# EAGLE library part DATACONV->BACKPLANE (library CONN, DataConversion-Backplane Connector- SAMTEC CLT-107-01-F-D)
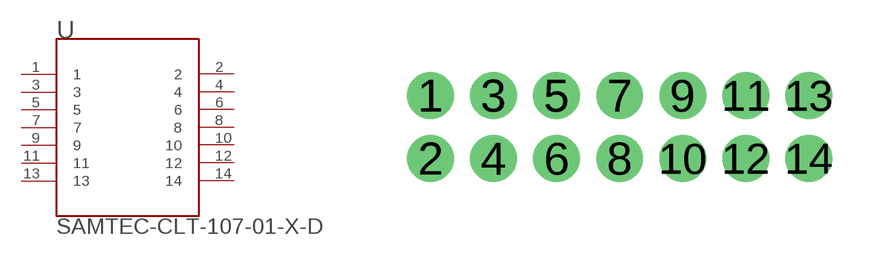
[diagram p1: symbol with the pads of SAMTEC-CLT-107-01-X-D-DATACONV; footprint SAMTEC-CLT-107-01-X-D-DATACONV]

Designator prefix -

## DATACONV->BACKPLANE  [SAMTEC-CLT-107-01-X-D-DATACONV]
1  1  pas
2  2  pas
3  3  pas
4  4  pas
5  5  pas
6  6  pas
7  7  pas
8  8  pas
9  9  pas
10  10  pas
11  11  pas
12  12  pas
13  13  pas
14  14  pas

## Footprint SAMTEC-CLT-107-01-X-D-DATACONV (pad centres in mm)
translated Allegro footprint
drill 0.89 pad 1.49: 1 -6,1; 2 -6,-1; 3 -4,1; 4 -4,-1; 5 -2,1; 6 -2,-1; 7 0,1; 8 0,-1; 9 2,1; 10 2,-1; 11 4,1; 12 4,-1; 13 6,1; 14 6,-1